# Altium footprint library Resistor - Surface Mount - 2512.PcbLib: 1 footprints
Each footprint in its own frame and in the unit in brackets; x right, y up, seen from the top. Pads: shape width x height; smd on the part's side, far side on the other; paste and mask are expansions set on the pad; w line width, h text height; cw(c..) or ccw(c..) is an arc to the next point about the centre after c.
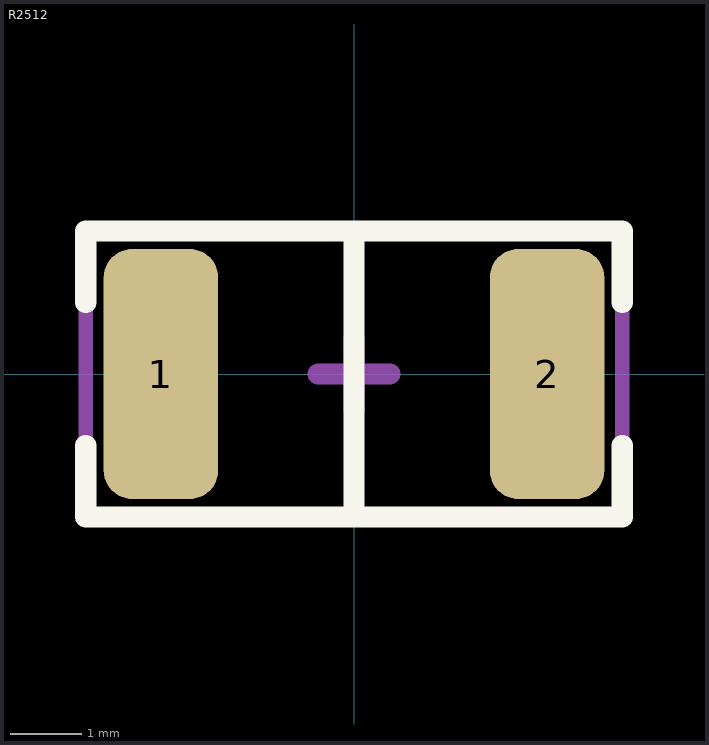
[diagram p0: the footprint, top view; thin cyan lines are the x and y axes]

## R2512 [mm]
pads (2):
  rrect50% 1.6x3.5 smd: 1(-2.7,0) 2(2.7,0)
Top Overlay:
  lines w0.3: -3.75,-1 -3.75,-2 0,-2 ; -3.75,1 -3.75,2 0,2 ; 3.75,-1 3.75,-2 0,-2 ; 3.75,1 3.75,2 0,2 ; 0,-2 0,2
Mechanical 2:
  lines w0.2: -3.75,-2 3.75,-2 3.75,2 0,2 -3.75,2 -3.75,-2
  lines w0.3: -0.5,0 0.5,0 ; 0,-0.5 0,0.5
3D body "R2512.STEP": height 0.63, standoff -0.02, extent -3.175,-1.55 3.175,1.55